# EAGLE library part DRV8884PWPR (library Spectron2)
STEPPER MOTOR CONTROLLER
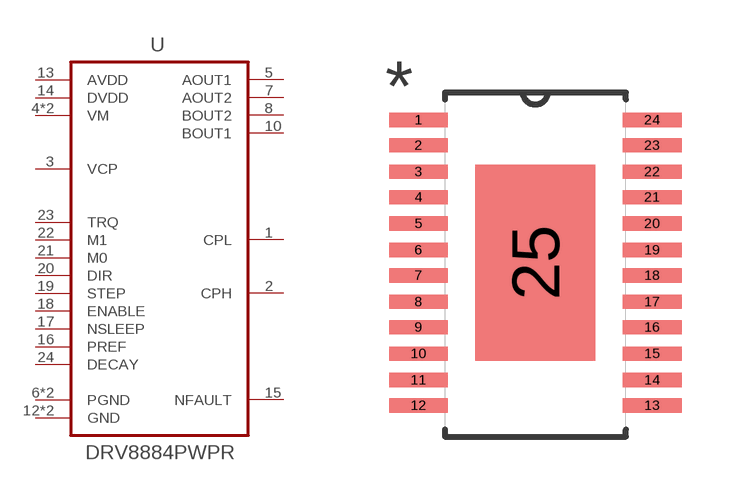
[diagram p9: symbol with the pads of SOP65P640X120-29N; footprint SOP65P640X120-29N]

Designator prefix U

## DRV8884PWPR (MPN: DRV8884PWPR; OC_FARNELL: -; OC_NEWARK: 24R9117; PACKAGE: TSSOP-28; SUPPLIER: Texas Instruments)  [SOP65P640X120-29N]
1  CPL  in
2  CPH  in
3  VCP  in
4  VM  pwr
5  AOUT1  out
6  PGND  pas
7  AOUT2  out
8  BOUT2  out
9  PGND  pas
10  BOUT1  out
11  VM  pwr
12  GND  pas
13  AVDD  pwr
14  DVDD  pwr
15  NFAULT  out
16  PREF  in
17  NSLEEP  in
18  ENABLE  in
19  STEP  in
20  DIR  in
21  M0  in
22  M1  in
23  TRQ  in
24  DECAY  in
25  GND  pas

## Footprint SOP65P640X120-29N (pad centres in mm)
smd 1.473 x 0.356: 1 -2.921,3.566; 2 -2.921,2.931; 3 -2.921,2.271; 4 -2.921,1.636; 5 -2.921,0.976; 6 -2.921,0.315; 7 -2.921,-0.32; 8 -2.921,-0.98; 9 -2.921,-1.615; 10 -2.921,-2.276; 11 -2.921,-2.936; 12 -2.921,-3.571; 13 2.921,-3.571; 14 2.921,-2.936; 15 2.921,-2.276; 16 2.921,-1.615; 17 2.921,-0.98; 18 2.921,-0.32; 19 2.921,0.315; 20 2.921,0.976; 21 2.921,1.636; 22 2.921,2.271; 23 2.921,2.931; 24 2.921,3.566
smd 3 x 4.9: 25 0,0